# Altium integrated library Rectangular Connectors.IntLib: 6 symbols
Pins are listed as number, name and electrical type; pins without a type are passive.

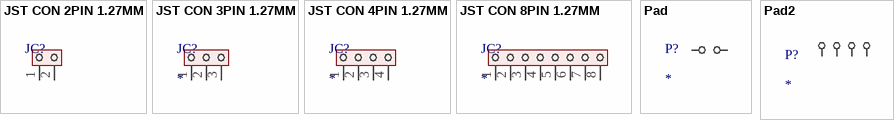
[diagram p0: symbols JST CON 2PIN 1.27MM to Pad2]

## JST CON 2PIN 1.27MM
designator JC?
footprint JST 2 PIN 1.27 (1.27mm)
pins: 1 A, 2 B

## JST CON 3PIN 1.27MM
designator JC?
pins: 1 A, 2 B, 3 C

## JST CON 4PIN 1.27MM
designator JC?
footprint JST 4 PIN 1.27 (1.27mm)
pins: 1 A, 2 B, 3 C, 4 D

## JST CON 8PIN 1.27MM
designator JC?
footprint JST 8 PIN 1.27
pins: 1 A, 2 B, 3 C, 4 D, 5 E, 6 F, 7 G, 8 H

## Pad
designator P?
footprint Pad
pins: 1, 2

## Pad2
designator P?
footprint PAD2
pins: 1, 2, 3, 4